# Altium schematic symbol library SparkFun-IC-Power.SCHLIB: 65 symbols
Pins are listed as number, name and electrical type; pins without a type are passive.

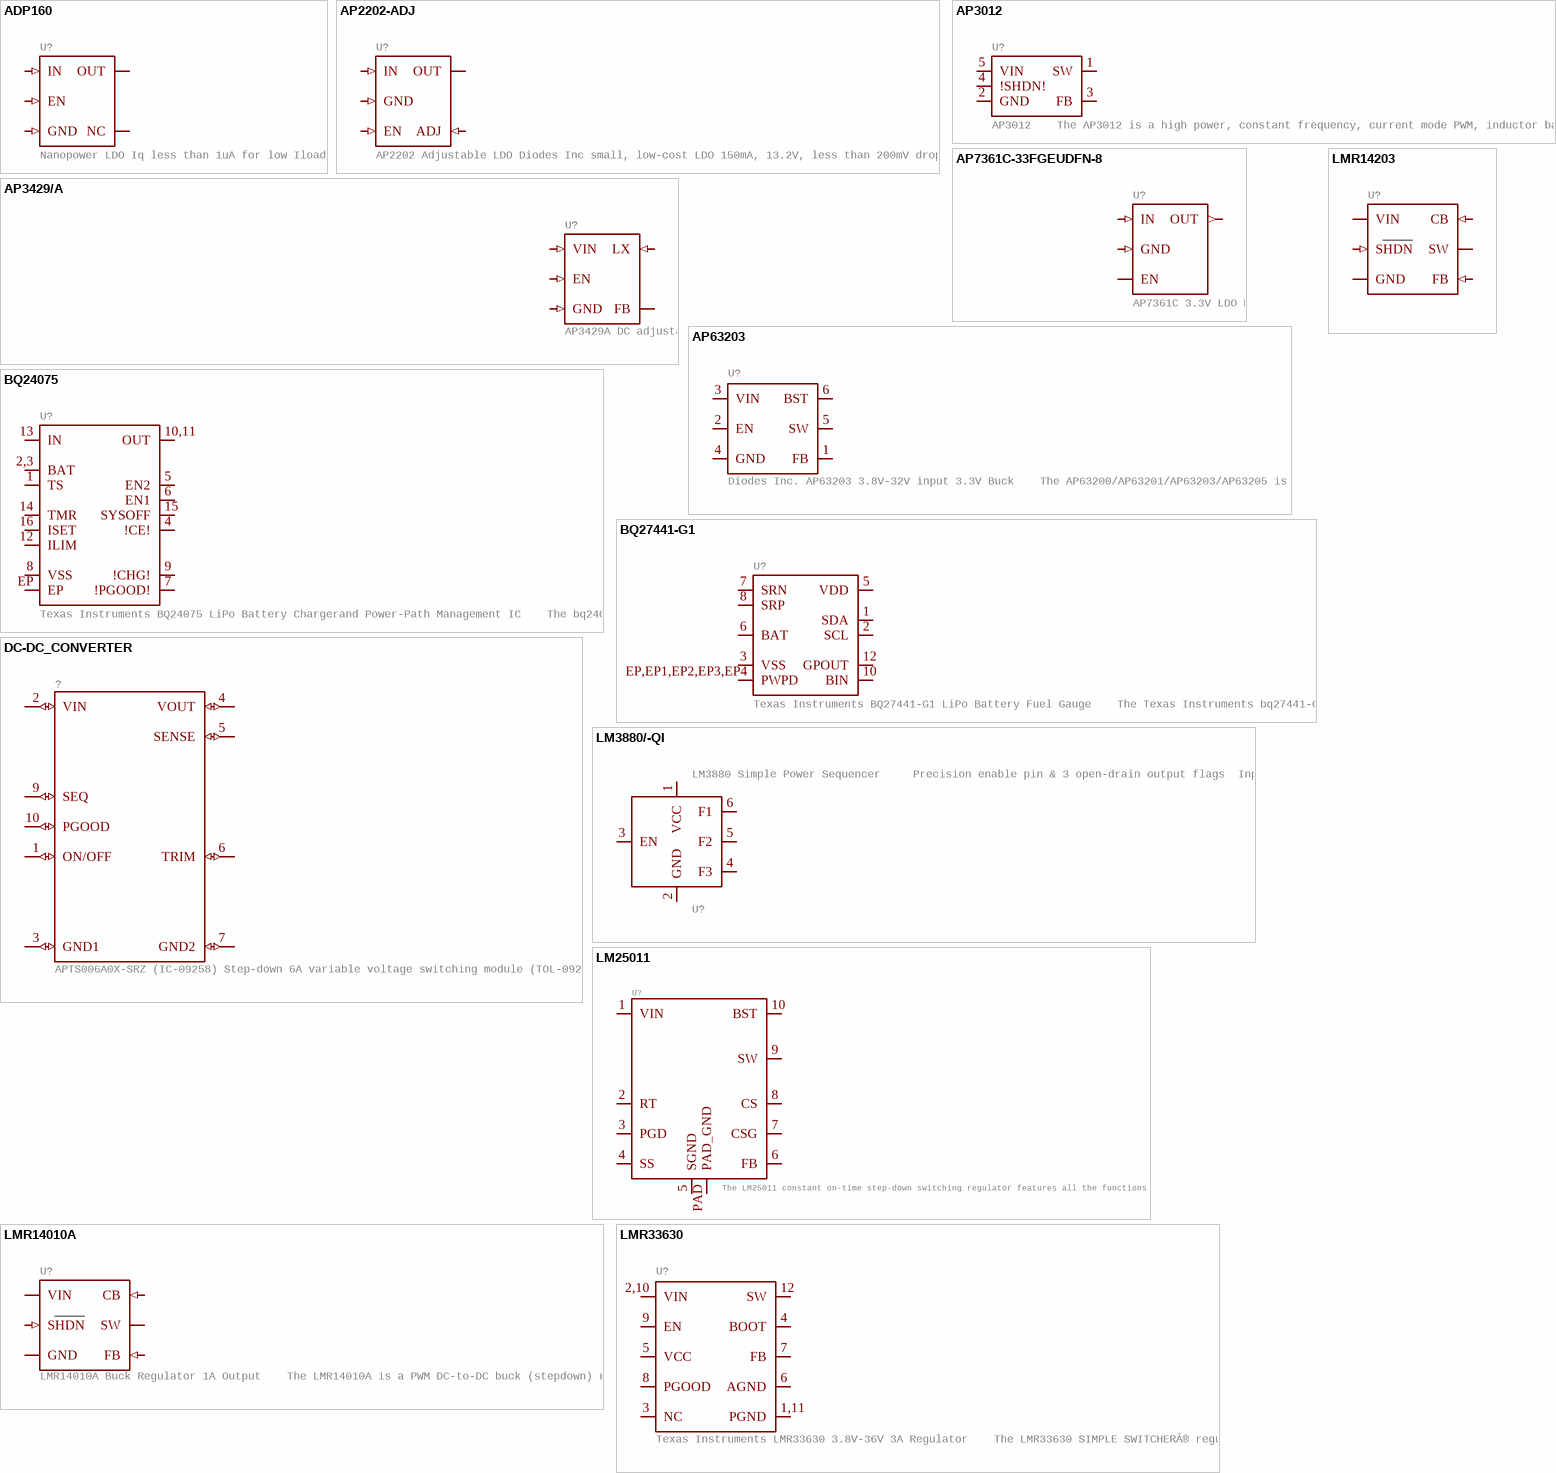
[diagram p0: symbols ADP160 to LMR33630]

## ADP160
designator U?, comment Nanopower LDO Iq less than 1uA for low Iload
GateName_1: U1; SymbolName_1: V-REG-LDO_NO-BP; DeviceSetName: ADP160; PROD_ID: VREG-11306; LibraryName: SparkFun-IC-Power; Package: SOT23-5
footprint SOT23-5
pins: 1 IN (in), 2 GND (in), 3 EN (in), 4 NC, 5 OUT

## AP2202-ADJ
designator U?, comment AP2202 Adjustable LDO Diodes Inc small, low-cost LDO 150mA, 13.2V, less than 200mV dropout
GateName_1: G$1; SymbolName_1: V-REG-LDO-ADJ; DeviceSetName: AP2202-ADJ; PROD_ID: VREG-12189; LibraryName: SparkFun-IC-Power; Package: SOT23-5
footprint SOT23-5
pins: 1 IN (in), 2 GND (in), 3 EN (in), 4 ADJ (in), 5 OUT

## AP3012
designator U?, comment AP3012    The AP3012 is a high power, constant frequency, current mode PWM, inductor based, step-up (boost) converter. The converter operates at high frequency (1.5MHz) so that a small, low profile inductor can be used.   Datasheet
GateName_1: G$1; PROD_ID: VREG-13911; SymbolName_1: AP3012; LibraryName: SparkFun-IC-Power; DeviceSetName: AP3012; Package: SOT23-5
footprint SOT23-5
pins: 1 SW (io), 2 GND (io), 3 FB (io), 4 !SHDN! (io), 5 VIN (io)

## AP3429/A
designator U?, comment AP3429A DC adjustable buck up to 2A output. Auto cut-off at 2.7V makes this a good option for LiPo and other battery powered circuits.
GateName_1: U1; SymbolName_1: V-REG-LDO-ADJ-1; DeviceSetName: AP3429/A; PROD_ID: IC-14465; LibraryName: SparkFun-IC-Power; Package: SOT23-5
footprint SOT23-5
pins: 1 EN (in), 2 GND (in), 3 LX (in), 4 VIN (in), 5 FB

## AP7361C-33FGEUDFN-8
designator U?, comment AP7361C 3.3V LDO Regulator
GateName_1: G$1; DeviceName: UDFN-8; DeviceSetName: AP7361C-33FGE; PROD_ID: VREG-14094; SymbolName_1: AP7361C; LibraryName: SparkFun-IC-Power; Package: UDFN-8
footprint UDFN-8
pins: 1 OUT (out), 4,EP GND (in), 5 EN (io), 8 IN (in)

## AP63203
designator U?, comment Diodes Inc. AP63203 3.8V-32V input 3.3V Buck    The AP63200/AP63201/AP63203/AP63205 is a 2A, synchronous buck converter with a wide input voltage range of 3.8V to 32V and fully integrates a 125mâ„¦ high-side power MOSFET and a 68mâ„¦ lowside power MOSFET to provide high-efficiency step-down DC/DC conversion
GateName_1: G$1; PROD_ID: VREG-15244; SymbolName_1: AP63203; LibraryName: SparkFun-IC-Power; DeviceSetName: AP63203; Package: SOT23-6
footprint SOT23-6
pins: 1 FB (io), 2 EN (io), 3 VIN (io), 4 GND (io), 5 SW (io), 6 BST (io)

## BQ24075
designator U?, comment Texas Instruments BQ24075 LiPo Battery Chargerand Power-Path Management IC    The bq2407x series of devices are integrated Li-Ion linear chargers and system power path management devices targeted at space-limited portable applications. The devices operate from either a USB port or an AC adapter and support charge currents up to 1.5 A. The input voltage range with input overvoltage protection supports unregulated adapters. The USB input current limit accuracy and start up sequence allow the bq2407x to meet USB-IF inrush current specifications. Additionally, the input dynamic power management (VIN-DPM) prevents the charger from crashing incorrectly configured USB sources.   Datasheet SparkFun Products  SparkFun Battery Babysitter (PRT-13777)
GateName_1: G$1; PROD_ID: IC-13219; SymbolName_1: BQ24075; LibraryName: SparkFun-IC-Power; DeviceSetName: BQ24075; Package: PVQFN-N16
footprint PVQFN-N16
pins: 1 TS (io), 2,3 BAT (io), 4 !CE! (io), 5 EN2 (io), 6 EN1 (io), 7 !PGOOD! (io), 8 VSS (io), 9 !CHG! (io), 10,11 OUT (io), 12 ILIM (io), 13 IN (io), 14 TMR (io), 15 SYSOFF (io), 16 ISET (io), EP (io)

## BQ27441-G1
designator U?, comment Texas Instruments BQ27441-G1 LiPo Battery Fuel Gauge    The Texas Instruments bq27441-G1 fuel gauge is a microcontroller peripheral that provides system-side fuel gauging for single-cell Li-Ion batteries. The device requires minimal user configuration and system microcontroller firmware development.   The bq27441-G1 battery fuel gauge uses the patented Impedance Trackâ„¢ algorithm for fuel gauging, and provides information such as remaining battery capacity (mAh), state-of-charge (%), and battery voltage (mV).   Datasheet SparkFun Products  SparkFun Battery Babysitter (PRT-13777)
GateName_1: G$1; PROD_ID: IC-13220; SymbolName_1: BQ27441-G1; LibraryName: SparkFun-IC-Power; DeviceSetName: BQ27441-G1; Package: PDSO-N12
footprint PDSO-N12
pins: 1 SDA (io), 2 SCL (io), 3 VSS (io), 5 VDD (io), 6 BAT (io), 7 SRN (io), 8 SRP (io), 10 BIN (io), 12 GPOUT (io), EP,EP1,EP2,EP3,EP4 PWPD (io)

## DC-DC_CONVERTER
designator ?, comment APTS006A0X-SRZ (IC-09258) Step-down 6A variable voltage switching module (TOL-09275)
GateName_1: G$1; SymbolName_1: DC-DC_CONVERTER; LibraryName: SparkFun-IC-Power; DeviceSetName: DC-DC_CONVERTER; Package: DC-DC_CONVERTER
footprint DC-DC_CONVERTER
pins: 1 ON/OFF (io), 2 VIN (io), 3 GND1 (io), 4 VOUT (io), 5 SENSE (io), 6 TRIM (io), 7 GND2 (io), 9 SEQ (io), 10 PGOOD (io)

## LM3880/-QI
designator U?, comment LM3880 Simple Power Sequencer     Precision enable pin & 3 open-drain output flags  Input Voltage Range of 2.7 V to 5.5 V  Power-Up and Power-Down Control  The timing sequence of the LM3880 is controlled entirely by the enable (EN) pin. Upon power up, all the flags are held low until this precision enable is pulled high    LM3880MF-1XY (Timing Designator)  AF: 16ms  AE: 2ms  AA: 10ms  AB: 30ms  AC: 60ms  AD: 120ms        SparkFun Products  SparkFun 6 Degrees of Freedom Breakout - LSM303C (BOB-13303)
GateName_1: G$1; SymbolName_1: LM3880/-QI; PROD_ID: IC-12558; LibraryName: SparkFun-IC-Power; DeviceSetName: LM3880/-QI; Package: SOT23-6
footprint SOT23-6
pins: 1 VCC (io), 2 GND (io), 3 EN (io), 4 F3 (io), 5 F2 (io), 6 F1 (io)

## LM25011
designator U?, comment The LM25011 constant on-time step-down switching regulator features all the functions needed to implement a low-cost, efficient, buck bias regulator capable of supplying up to 2 A of load current. This high-voltage regulator contains an N-Channel Buck switch, a startup regulator, current limit detection, and internal ripple control.
GateName_1: G$1; PROD_ID: IC-12528; SymbolName_1: LM25011; LibraryName: SparkFun-IC-Power; DeviceSetName: LM25011; Package: HVSS0P-10
footprint HVSS0P-10
pins: 1 VIN (io), 2 RT (io), 3 PGD (io), 4 SS (io), 5 SGND (io), 6 FB (io), 7 CSG (io), 8 CS (io), 9 SW (io), 10 BST (io), PAD PAD_GND (io)

## LMR14010A
designator U?, comment LMR14010A Buck Regulator 1A Output    The LMR14010A is a PWM DC-to-DC buck (stepdown) regulator. With a wide input range from 4 V to 40 V, it is suitable for a wide range of applications from industrial to automotive. An ultra-low 1-ÂµA shutdown current prolongs battery life. Operating frequency is fixed at 0.7 MHz, allowing the use of small external components while minimizing output ripple voltage. Soft-start and compensation circuits are implemented internally, limiting the number of external components.    The LMR14010A is optimized for up to 1-A load current. It has a 0.765-V nominal feedback voltage
GateName_1: G$1; SymbolName_1: LMR14203; PROD_ID: IC-15089; LibraryName: SparkFun-IC-Power; DeviceSetName: LMR14010A; Package: SOT23-6
footprint SOT23-6
pins: 1 CB (in), 2 GND (power), 3 FB (in), 4 SHDN (in), 5 VIN (power), 6 SW (power)

## LMR14203
designator U?
GateName_1: U1; SymbolName_1: LMR14203; PROD_ID: IC-13918; LibraryName: SparkFun-IC-Power; DeviceSetName: LMR14203; Package: SOT23-6
footprint SOT23-6
pins: 1 CB (in), 2 GND (power), 3 FB (in), 4 SHDN (in), 5 VIN (power), 6 SW (power)

## LMR33630
designator U?, comment Texas Instruments LMR33630 3.8V-36V 3A Regulator    The LMR33630 SIMPLE SWITCHERÂ® regulator is an easy-to-use, synchronous, step-down DC/DC converter that delivers best-in-class efficiency for rugged industrial applications. The LMR33630 drives up to 3 A of load current from an input of up to 36 V.
GateName_1: G$1; PROD_ID: VREG-15445; SymbolName_1: LMR33630; LibraryName: SparkFun-IC-Power; DeviceSetName: LMR33630; Package: VQFN-HR-12
footprint VQFN-HR-12
pins: 1,11 PGND (io), 2,10 VIN (io), 3 NC (io), 4 BOOT (io), 5 VCC (io), 6 AGND (io), 7 FB (io), 8 PGOOD (io), 9 EN (io), 12 SW (io)

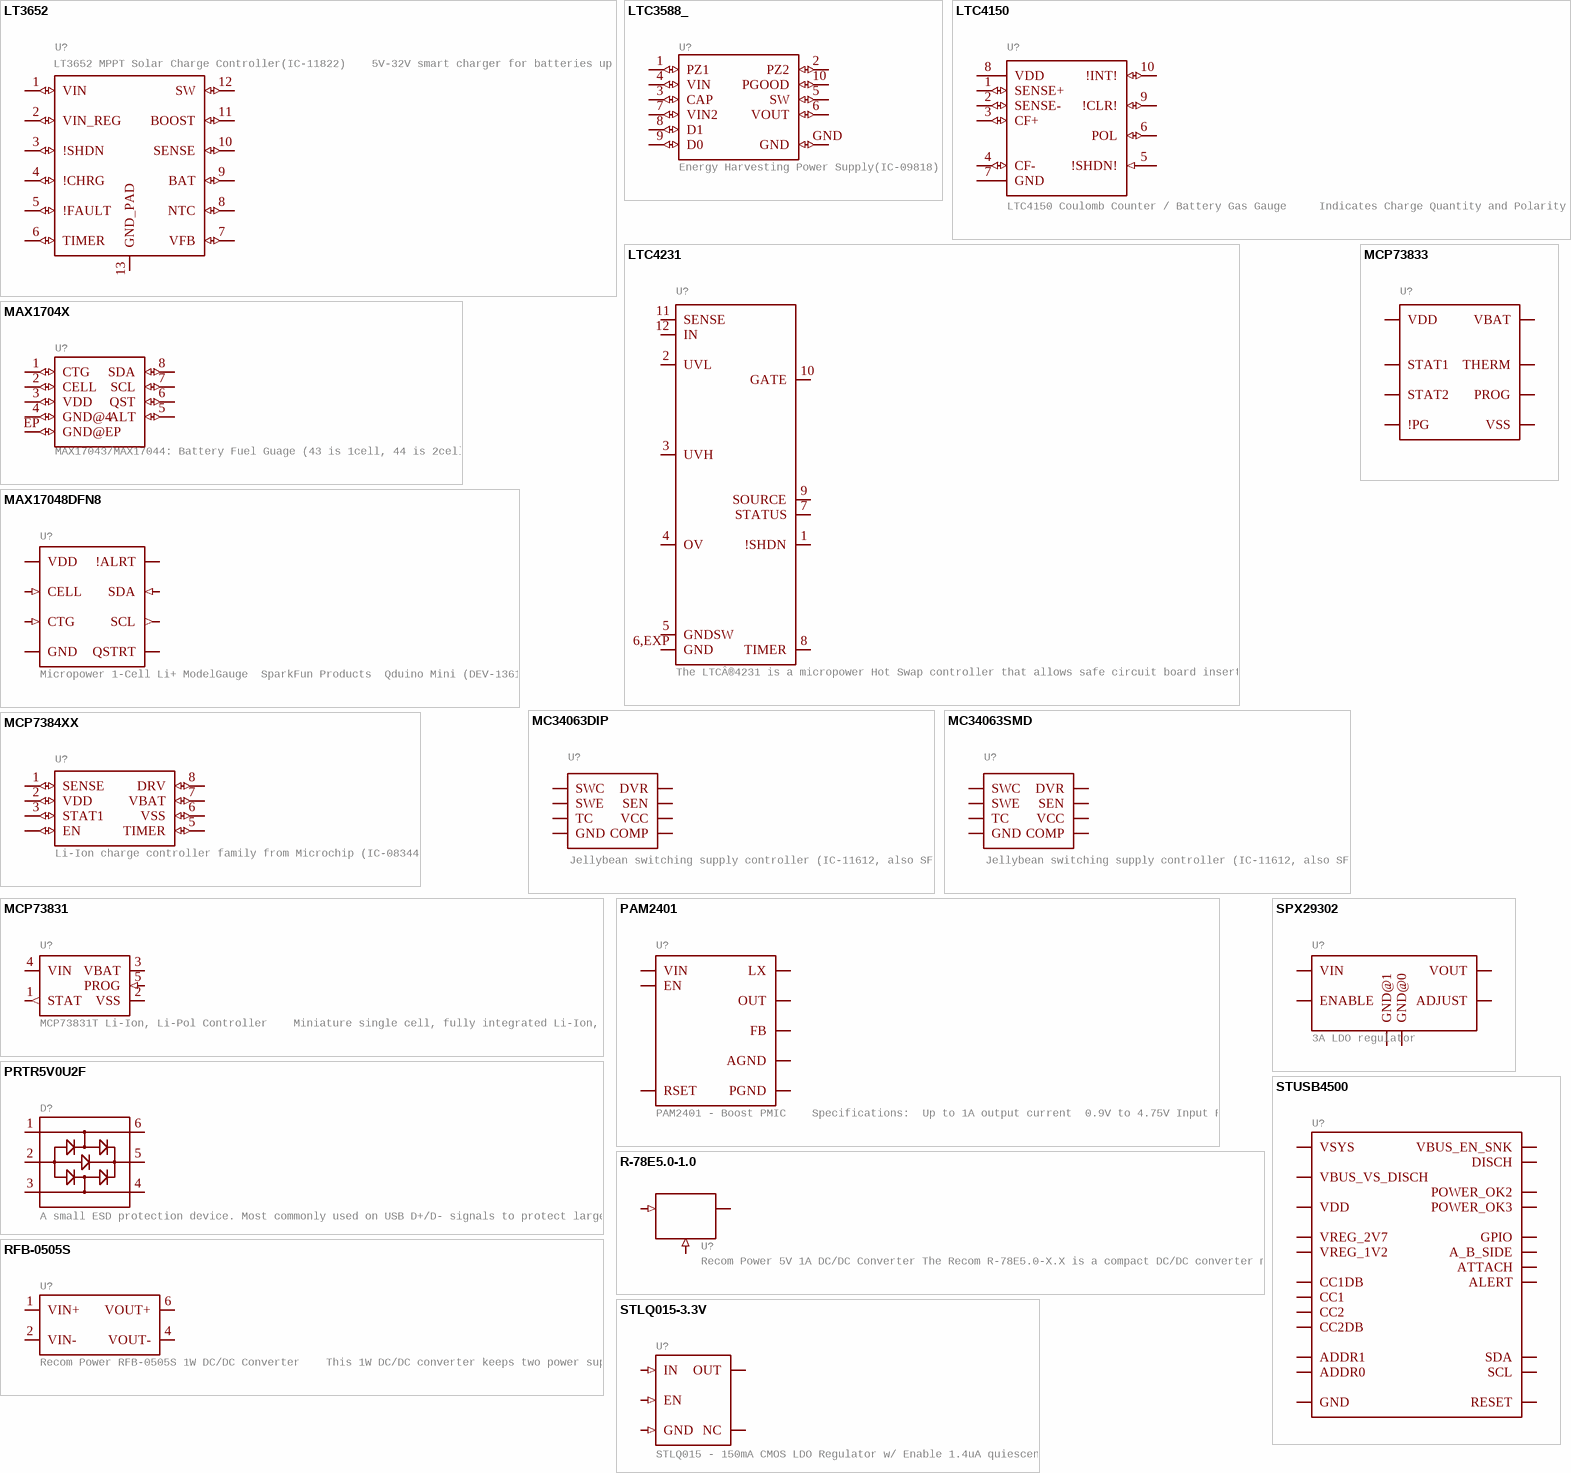
[diagram p1: symbols LT3652 to STUSB4500]

## LT3652
designator U?, comment LT3652 MPPT Solar Charge Controller(IC-11822)    5V-32V smart charger for batteries up to 14.4V
GateName_1: G$1; SymbolName_1: LT3652; LibraryName: SparkFun-IC-Power; DeviceSetName: LT3652; Package: MSOP-12_GND
footprint MSOP-12_GND
pins: 1 VIN (io), 2 VIN_REG (io), 3 !SHDN (io), 4 !CHRG (io), 5 !FAULT (io), 6 TIMER (io), 7 VFB (io), 8 NTC (io), 9 BAT (io), 10 SENSE (io), 11 BOOST (io), 12 SW (io), 13 GND_PAD (io)

## LTC3588_
designator U?, comment Energy Harvesting Power Supply(IC-09818)
GateName_1: G$1; SymbolName_1: LTC3588; DeviceName: _; LibraryName: SparkFun-IC-Power; DeviceSetName: LTC3588; Package: MSOP-10-GNDPAD
footprint MSOP-10-GNDPAD
pins: 1 PZ1 (io), 2 PZ2 (io), 3 CAP (io), 4 VIN (io), 5 SW (io), 6 VOUT (io), 7 VIN2 (io), 8 D1 (io), 9 D0 (io), 10 PGOOD (io), GND (io)

## LTC4150
designator U?, comment LTC4150 Coulomb Counter / Battery Gas Gauge     Indicates Charge Quantity and Polarity  Â±50mV Sense Voltage Range  Precision Timer Capacitor or Crystal Not Required  2.7V to 8.5V Operation  High Side Sense  32.55Hz/V Charge Count Frequency  1.5Î¼A Shutdown Current  10-Pin MSOP Package          Datasheet Manufacturer's page: http://www.linear.com/product/LTC4150 SparkFun Products  SparkFun Coulomb Counter Breakout - LTC4150 (BOB-12052)
GateName_1: G$1; PROD_ID: IC-11785; SymbolName_1: LTC4150; LibraryName: SparkFun-IC-Power; DeviceSetName: LTC4150; Package: MSOP10
footprint MSOP10
pins: 1 SENSE+ (io), 2 SENSE- (io), 3 CF+ (io), 4 CF- (io), 5 !SHDN! (in), 6 POL (io), 7 GND (power), 8 VDD (power), 9 !CLR! (io), 10 !INT! (io)

## LTC4231
designator U?, comment The LTCÂ®4231 is a micropower Hot Swap controller that allows safe circuit board insertion and removal from a live power supply. An internal high side switch driver controls the gate of an external N-channel MOSFET. Back-to-back MOSFETs can be used for reverse supply protection down to â€“40V.
GateName_1: G$1; SymbolName_1: LTC4231; PROD_ID: IC-15811; LibraryName: SparkFun-IC-Power; DeviceSetName: LTC4231; Package: QFN-12
footprint QFN-12
pins: 1 !SHDN (io), 2 UVL (io), 3 UVH (io), 4 OV (io), 5 GNDSW (io), 6,EXP GND (io), 7 STATUS (io), 8 TIMER (io), 9 SOURCE (io), 10 GATE (io), 11 SENSE (io), 12 IN (io)

## MAX1704X
designator U?, comment MAX17043/MAX17044: Battery Fuel Guage (43 is 1cell, 44 is 2cell)
GateName_1: G$1; SymbolName_1: MAX1704X; PROD-ID: IC-10399; LibraryName: SparkFun-IC-Power; DeviceSetName: MAX1704X; Package: TDFN-8
footprint TDFN-8
pins: 1 CTG (io), 2 CELL (io), 3 VDD (io), 4 GND@4 (io), 5 ALT (io), 6 QST (io), 7 SCL (io), 8 SDA (io), EP GND@EP (io)

## MAX17048DFN8
designator U?, comment Micropower 1-Cell Li+ ModelGauge  SparkFun Products  Qduino Mini (DEV-13614)
GateName_1: U1; SymbolName_1: MAX17048; DeviceName: DFN8; PROD_ID: IC-12551; LibraryName: SparkFun-IC-Power; DeviceSetName: MAX17048; Package: DFN-8
footprint DFN-8
pins: 1 CTG (in), 2 CELL (in), 3 VDD (io), 4,9 GND (io), 5 !ALRT (io), 6 QSTRT (io), 7 SCL (out), 8 SDA (in)

## MC34063DIP
designator U?, comment Jellybean switching supply controller (IC-11612, also SF)
GateName_1: G$1; SymbolName_1: MC34063; DeviceName: DIP; LibraryName: SparkFun-IC-Power; DeviceSetName: MC34063; Package: DIP-08
footprint DIP-08
pins: 1 SWC (io), 2 SWE (io), 3 TC (io), 4 GND (io), 5 COMP (io), 6 VCC (io), 7 SEN (io), 8 DVR (io)

## MC34063SMD
designator U?, comment Jellybean switching supply controller (IC-11612, also SF)
GateName_1: G$1; SymbolName_1: MC34063; DeviceName: SMD; LibraryName: SparkFun-IC-Power; DeviceSetName: MC34063; Package: SO08
footprint SO08
pins: 1 SWC (io), 2 SWE (io), 3 TC (io), 4 GND (io), 5 COMP (io), 6 VCC (io), 7 SEN (io), 8 DVR (io)

## MCP7384XX
designator U?, comment Li-Ion charge controller family from Microchip (IC-08344)
GateName_1: G$1; SymbolName_1: MCP73842; DeviceSetName: MCP7384XX; LibraryName: SparkFun-IC-Power; Package: MSOP8
footprint MSOP8
pins: 1 SENSE (io), 2 VDD (io), 3 STAT1 (io), 4 EN (io), 5 TIMER (io), 6 VSS (io), 7 VBAT (io), 8 DRV (io)

## MCP73831
designator U?, comment MCP73831T Li-Ion, Li-Pol Controller    Miniature single cell, fully integrated Li-Ion, Li-polymer charge management controller  Datasheet    SparkFun Products: SparkFun ESP32 Thing  SparkFun 9DoF Razor IMU M0
GateName_1: G$1; PROD_ID: IC-09995; SymbolName_1: MCP73831; LibraryName: SparkFun-IC-Power; DeviceSetName: MCP73831; Package: SOT23-5
footprint SOT23-5
pins: 1 STAT (out), 2 VSS (power), 3 VBAT (power), 4 VIN (power), 5 PROG (in)

## MCP73833
designator U?
GateName_1: G$1; SymbolName_1: MCP73833; PROD_ID: IC-14369; LibraryName: SparkFun-IC-Power; DeviceSetName: MCP73833; Package: DFN-10
footprint DFN-10
pins: 1,2 VDD (io), 3 STAT1 (io), 4 STAT2 (io), 5,11 VSS (io), 6 PROG (io), 7 !PG (io), 8 THERM (io), 9,10 VBAT (io)

## PAM2401
designator U?, comment PAM2401 - Boost PMIC    Specifications:  Up to 1A output current  0.9V to 4.75V Input Range   2.5V to 5.0V Adjustable Output Voltage       Datasheet (Diodes inc.)
GateName_1: G$1; PROD_ID: IC-13769; SymbolName_1: PAM2401; LibraryName: SparkFun-IC-Power; DeviceSetName: PAM2401; Package: MSOP8
footprint MSOP8
pins: 1 LX (io), 2 EN (io), 3 VIN (io), 4 AGND (io), 5 FB (io), 6 RSET (io), 7 OUT (io), 8 PGND (io)

## PRTR5V0U2F
designator D?, comment A small ESD protection device. Most commonly used on USB D+/D- signals to protect large, expensive, or especially sensitive USB enabled devices.
GateName_1: D1; SymbolName_1: PRTR5V0U2; DeviceName: F; PROD_ID: DIO-14084; LibraryName: SparkFun-IC-Power; DeviceSetName: PRTR5V0U2; Package: SOT886
footprint SOT886
pins: 1 (io), 2 (power), 3 (io), 4 (io), 5 (power), 6 (io)

## R-78E5.0-1.0
designator U?, comment Recom Power 5V 1A DC/DC Converter The Recom R-78E5.0-X.X is a compact DC/DC converter module that is a pin for pin drop-in replacement for the LM7805 linear voltage regulator.   Specifications:  Input Range: 7-28V  Output Voltage: 5V  Output Current: 1A  Max Efficiency: 91%     Datasheet
GateName_1: G$1; SymbolName_1: 78XX; DeviceSetName: R-78E5.0-1.0; PROD_ID: COM-13655; LibraryName: SparkFun-IC-Power; Package: DC-DC_CONVERTER_78XX
footprint DC-DC_CONVERTER_78XX
pins: GND (in), VIN IN (in), VOUT OUT

## RFB-0505S
designator U?, comment Recom Power RFB-0505S 1W DC/DC Converter    This 1W DC/DC converter keeps two power supplies magnetically isolated. Supplies up to 200 mA @ 5V.
GateName_1: G$1; PROD_ID: IC-14143; SymbolName_1: RFB-0505S; LibraryName: SparkFun-IC-Power; DeviceSetName: RFB-0505S; Package: RFB-0505S
footprint RFB-0505S
pins: 1 VIN+ (io), 2 VIN- (io), 4 VOUT- (io), 6 VOUT+ (io)

## SPX29302
designator U?, comment 3A LDO regulator
GateName_1: G$1; SymbolName_1: SPX29300; DeviceSetName: SPX29302; PROD_ID: VREG-08337; LibraryName: SparkFun-IC-Power; Package: Q5-DD_SPX29300
footprint Q5-DD_SPX29300
pins: 1 ENABLE (io), 2 VIN (io), 3 GND@1 (io), 4 VOUT (io), 5 ADJUST (io), 6 GND@0 (io)

## STLQ015-3.3V
designator U?, comment STLQ015 - 150mA CMOS LDO Regulator w/ Enable 1.4uA quiescent
GateName_1: U1; SymbolName_1: V-REG-LDO_NO-BP; DeviceName: -3.3V; PROD_ID: IC-15779; LibraryName: SparkFun-IC-Power; DeviceSetName: STLQ015; Package: SOT23-5
footprint SOT23-5
pins: 1 IN (in), 2 GND (in), 3 EN (in), 4 NC, 5 OUT

## STUSB4500
designator U?
GateName_1: G$1; SymbolName_1: STUSB4500; PROD_ID: IC-14684; LibraryName: SparkFun-IC-Power; DeviceSetName: STUSB4500; Package: QFN-24
footprint QFN-24
pins: P$1 CC1DB (io), P$2 CC1 (io), P$4 CC2 (io), P$5 CC2DB (io), P$6 RESET (io), P$7 SCL (io), P$8 SDA (io), P$9 DISCH (io), P$10,25 GND (io), P$11 ATTACH (io), P$12 ADDR0 (io), P$13 ADDR1 (io), P$14 POWER_OK3 (io), P$15 GPIO (io), P$16 VBUS_EN_SNK (io), P$17 A_B_SIDE (io), P$18 VBUS_VS_DISCH (io), P$19 ALERT (io), P$20 POWER_OK2 (io), P$21 VREG_1V2 (io), P$22 VSYS (io), P$23 VREG_2V7 (io), P$24 VDD (io)

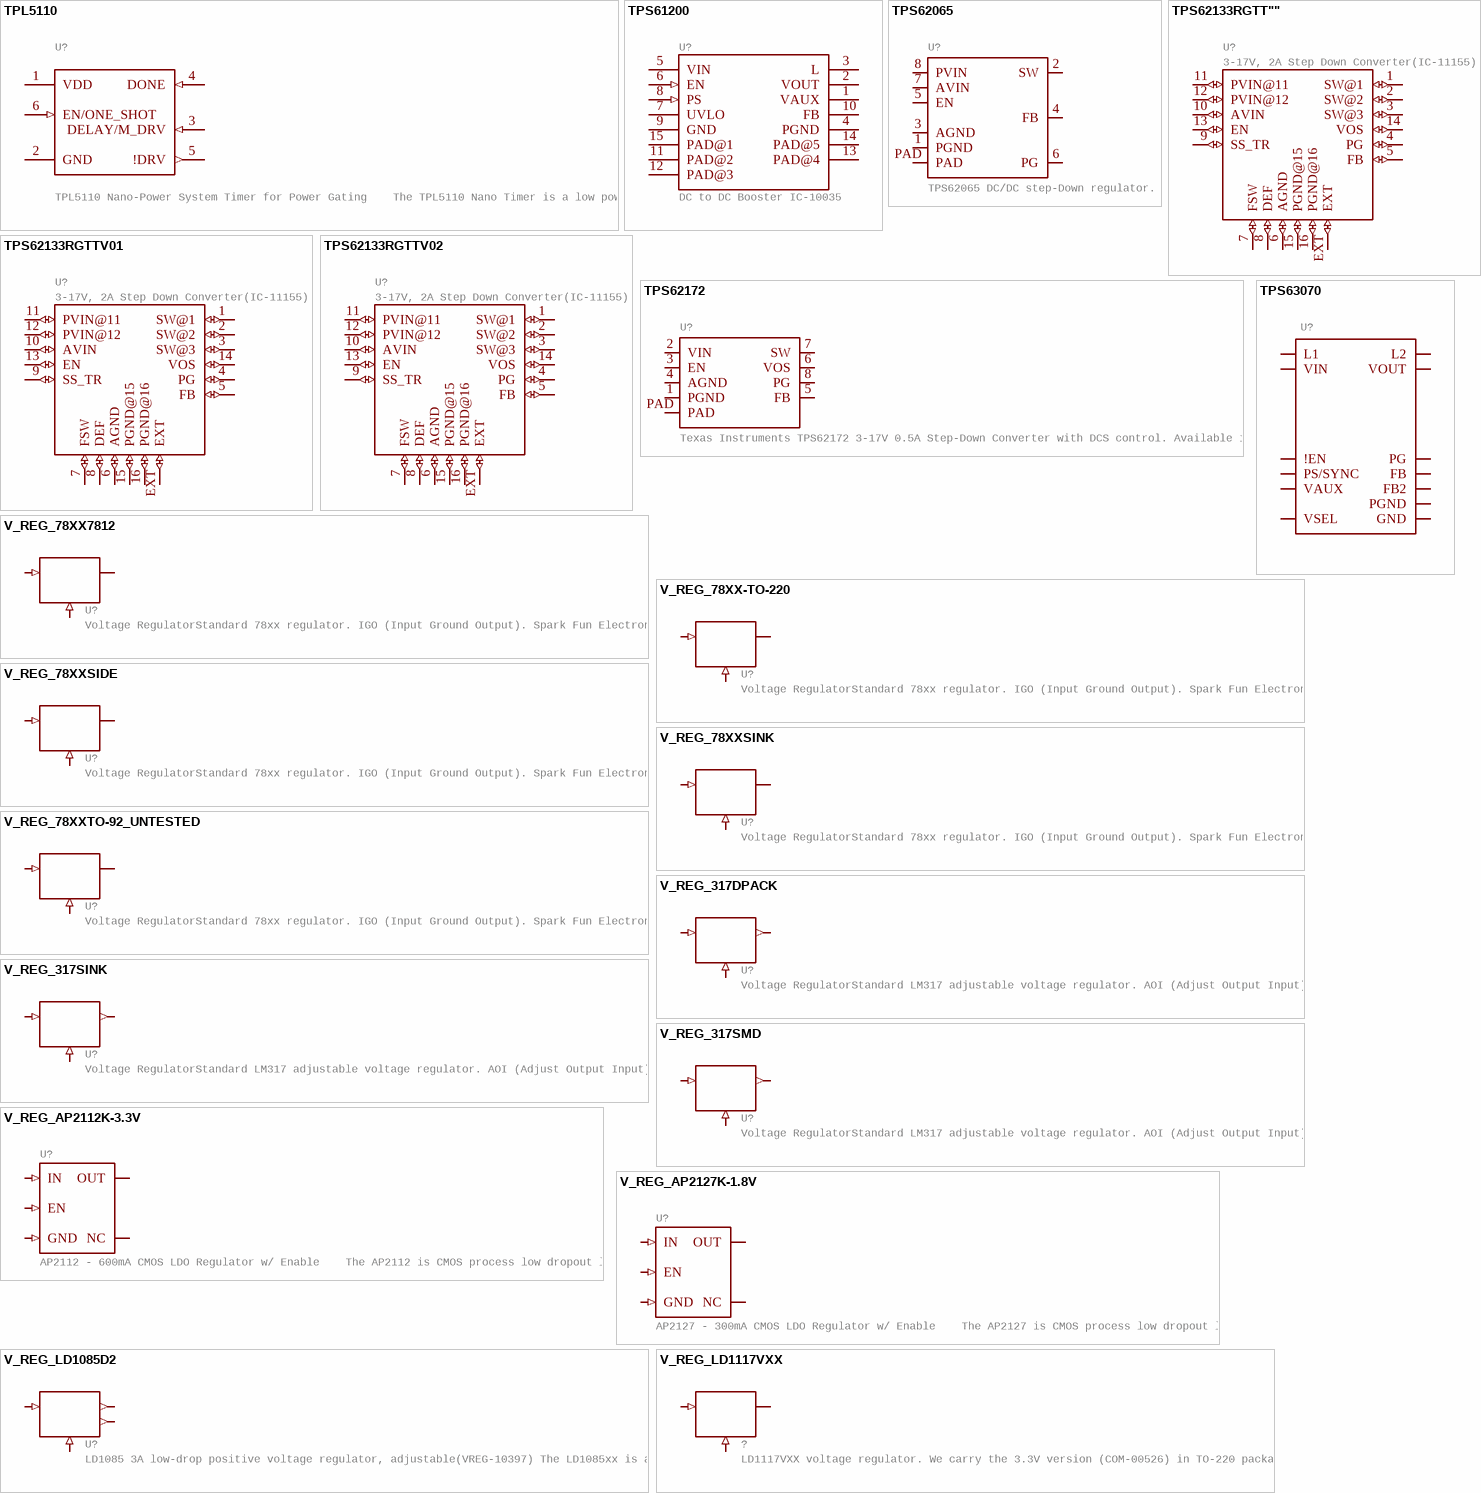
[diagram p2: symbols TPL5110 to V_REG_LD1117VXX]

## TPL5110
designator U?, comment TPL5110 Nano-Power System Timer for Power Gating    The TPL5110 Nano Timer is a low power timer with an integrated MOSFET driver designed for power gating in duty cycled or battery-powered applications. Consuming only 35 nA, the TPL5110 can enable the power supply line and drastically reduce the overall system stand by current during the sleep time.
GateName_1: G$1; PROD_ID: IC-14387; SymbolName_1: TPL5110; LibraryName: SparkFun-IC-Power; DeviceSetName: TPL5110; Package: SOT23-6
footprint SOT23-6
pins: 1 VDD (power), 2 GND (power), 3 DELAY/M_DRV (in), 4 DONE (in), 5 !DRV (out), 6 EN/ONE_SHOT (in)

## TPS61200
designator U?, comment DC to DC Booster IC-10035
GateName_1: G$1; SymbolName_1: TPS61200; LibraryName: SparkFun-IC-Power; DeviceSetName: TPS61200; Package: QFN-10_PAD; PROD_ID: IC-10035
footprint QFN-10_PAD
pins: 1 VAUX, 2 VOUT, 3 L, 4 PGND (power), 5 VIN (power), 6 EN (in), 7 UVLO, 8 PS (in), 9 GND (power), 10 FB, 11 PAD@2 (power), 12 PAD@3 (power), 13 PAD@4 (power), 14 PAD@5 (power), 15 PAD@1 (power)

## TPS62065
designator U?, comment TPS62065 DC/DC step-Down regulator.
GateName_1: G$1; SymbolName_1: TPS6206X; PROD_ID: IC-12273; LibraryName: SparkFun-IC-Power; DeviceSetName: TPS62065; Package: WSON-8-PAD
footprint WSON-8-PAD
pins: 1 PGND (io), 2 SW (io), 3 AGND (io), 4 FB (io), 5 EN (io), 6 PG (io), 7 AVIN (io), 8 PVIN (io), PAD (io)

## TPS62133RGTT""
designator U?, comment 3-17V, 2A Step Down Converter(IC-11155)
GateName_1: G$1; SymbolName_1: TPS62143; DeviceName: ""; DeviceSetName: TPS62133RGTT; LibraryName: SparkFun-IC-Power; Package: QFN16-3X3MM_1:1_V03; PROD_ID: IC-11155
footprint QFN16-3X3MM_1:1_V03
pins: 1 SW@1 (io), 2 SW@2 (io), 3 SW@3 (io), 4 PG (io), 5 FB (io), 6 AGND (io), 7 FSW (io), 8 DEF (io), 9 SS_TR (io), 10 AVIN (io), 11 PVIN@11 (io), 12 PVIN@12 (io), 13 EN (io), 14 VOS (io), 15 PGND@15 (io), 16 PGND@16 (io), EXT (io)

## TPS62133RGTTV01
designator U?, comment 3-17V, 2A Step Down Converter(IC-11155)
GateName_1: G$1; SymbolName_1: TPS62143; DeviceName: V01; DeviceSetName: TPS62133RGTT; LibraryName: SparkFun-IC-Power; Package: QFN16-3X3MM
footprint QFN16-3X3MM
pins: 1 SW@1 (io), 2 SW@2 (io), 3 SW@3 (io), 4 PG (io), 5 FB (io), 6 AGND (io), 7 FSW (io), 8 DEF (io), 9 SS_TR (io), 10 AVIN (io), 11 PVIN@11 (io), 12 PVIN@12 (io), 13 EN (io), 14 VOS (io), 15 PGND@15 (io), 16 PGND@16 (io), EXT (io)

## TPS62133RGTTV02
designator U?, comment 3-17V, 2A Step Down Converter(IC-11155)
GateName_1: G$1; SymbolName_1: TPS62143; DeviceName: V02; DeviceSetName: TPS62133RGTT; LibraryName: SparkFun-IC-Power; Package: QFN16-3X3MM_1:1_V02
footprint QFN16-3X3MM_1:1_V02
pins: 1 SW@1 (io), 2 SW@2 (io), 3 SW@3 (io), 4 PG (io), 5 FB (io), 6 AGND (io), 7 FSW (io), 8 DEF (io), 9 SS_TR (io), 10 AVIN (io), 11 PVIN@11 (io), 12 PVIN@12 (io), 13 EN (io), 14 VOS (io), 15 PGND@15 (io), 16 PGND@16 (io), EXT (io)

## TPS62172
designator U?, comment Texas Instruments TPS62172 3-17V 0.5A Step-Down Converter with DCS control. Available in adjustable and fixed output voltage versions.  Is packaged in an 8-pin WSON package measuring 2 Ã— 2 mm (DSG).   See a 3.3V fixed output version of this chip in action on the Electric Imp Breakout Board.  Datasheet
GateName_1: G$1; PROD_ID: IC-11307; SymbolName_1: TPS62172; LibraryName: SparkFun-IC-Power; DeviceSetName: TPS62172; Package: WSON-8-PAD
footprint WSON-8-PAD
pins: 1 PGND (io), 2 VIN (io), 3 EN (io), 4 AGND (io), 5 FB (io), 6 VOS (io), 7 SW (io), 8 PG (io), PAD (io)

## TPS63070
designator U?
GateName_1: G$1; SymbolName_1: TPS63070; PROD_ID: IC-14258; LibraryName: SparkFun-IC-Power; DeviceSetName: TPS63070; Package: VQFN-15-HR(3X2.5)
footprint VQFN-15-HR(3X2.5)
pins: P$1 PS/SYNC (io), P$2 PG (io), P$3 VAUX (io), P$4 GND (io), P$5 FB (io), P$6 FB2 (io), P$7/8 VOUT (io), P$9 L2 (io), P$10 PGND (io), P$11 L1 (io), P$12/13 VIN (io), P$14 !EN (io), P$15 VSEL (io)

## V_REG_78XX7812
designator U?, comment Voltage RegulatorStandard 78xx regulator. IGO (Input Ground Output). Spark Fun Electronics SKU : COM-00107
GateName_1: G$1; DeviceName: 7812; DeviceSetName: V_REG_78XX; PROD_ID: VREG-12370; SymbolName_1: 78XX; LibraryName: SparkFun-IC-Power; Package: TO-252
footprint TO-252
pins: 1 IN (in), 2 OUT, 3 GND (in)

## V_REG_78XX-TO-220
designator U?, comment Voltage RegulatorStandard 78xx regulator. IGO (Input Ground Output). Spark Fun Electronics SKU : COM-00107
GateName_1: G$1; DeviceName: -TO-220; DeviceSetName: V_REG_78XX; PROD_ID: VREG-08450; SymbolName_1: 78XX; LibraryName: SparkFun-IC-Power; Package: TO-220-ALT; SF_ID: COM-00107
footprint TO-220-ALT
pins: GND (in), IN (in), OUT

## V_REG_78XXSIDE
designator U?, comment Voltage RegulatorStandard 78xx regulator. IGO (Input Ground Output). Spark Fun Electronics SKU : COM-00107
GateName_1: G$1; DeviceName: SIDE; DeviceSetName: V_REG_78XX; SymbolName_1: 78XX; LibraryName: SparkFun-IC-Power; Package: 78XXL
footprint 78XXL
pins: GND (in), IN (in), OUT

## V_REG_78XXSINK
designator U?, comment Voltage RegulatorStandard 78xx regulator. IGO (Input Ground Output). Spark Fun Electronics SKU : COM-00107
GateName_1: G$1; DeviceName: SINK; DeviceSetName: V_REG_78XX; SymbolName_1: 78XX; LibraryName: SparkFun-IC-Power; Package: TO220-IGO
footprint TO220-IGO
pins: GND (in), IN (in), OUT

## V_REG_78XXTO-92_UNTESTED
designator U?, comment Voltage RegulatorStandard 78xx regulator. IGO (Input Ground Output). Spark Fun Electronics SKU : COM-00107
GateName_1: G$1; DeviceName: TO-92_UNTESTED; DeviceSetName: V_REG_78XX; SymbolName_1: 78XX; LibraryName: SparkFun-IC-Power; Package: TO-92
footprint TO-92
pins: 1 OUT, 2 GND (in), 3 IN (in)

## V_REG_317DPACK
designator U?, comment Voltage RegulatorStandard LM317 adjustable voltage regulator. AOI (Adjust Output Input). Google 'LM317 Calculator' for easy to use app to get the two resistor values needed. 240/720 for 5V output. 240/390 for 3.3V output. Spark Fun Electronics SKU : COM-00527
GateName_1: G$1; SymbolName_1: 78ADJ-2; DeviceName: DPACK; DeviceSetName: V_REG_317; PROD_ID: IC-09888; LibraryName: SparkFun-IC-Power; Package: V-REG_DPACK
footprint V-REG_DPACK
pins: 1 ADJ (in), 3 IN (in), 4 OUT (out)

## V_REG_317SINK
designator U?, comment Voltage RegulatorStandard LM317 adjustable voltage regulator. AOI (Adjust Output Input). Google 'LM317 Calculator' for easy to use app to get the two resistor values needed. 240/720 for 5V output. 240/390 for 3.3V output. Spark Fun Electronics SKU : COM-00527
GateName_1: G$1; SymbolName_1: 78ADJ-2; DeviceName: SINK; DeviceSetName: V_REG_317; LibraryName: SparkFun-IC-Power; Package: TO220-ADJ
footprint TO220-ADJ
pins: ADJ (in), IN (in), OUT (out)

## V_REG_317SMD
designator U?, comment Voltage RegulatorStandard LM317 adjustable voltage regulator. AOI (Adjust Output Input). Google 'LM317 Calculator' for easy to use app to get the two resistor values needed. 240/720 for 5V output. 240/390 for 3.3V output. Spark Fun Electronics SKU : COM-00527
GateName_1: G$1; SymbolName_1: 78ADJ-2; DeviceName: SMD; DeviceSetName: V_REG_317; LibraryName: SparkFun-IC-Power; Package: SOT223
footprint SOT223
pins: 1 ADJ (in), 2 OUT (out), 3 IN (in)

## V_REG_AP2112K-3.3V
designator U?, comment AP2112 - 600mA CMOS LDO Regulator w/ Enable    The AP2112 is CMOS process low dropout linear regulator with enable function, the regulator delivers a guaranteed 600mA (min.) continuous load current.   Features  Output Voltage Accuracy: Â±1.5%   Output Current: 600mA (Min.)   Foldback Short Current Protection: 50mA   Enable Function to Turn ON/OFF VOUT  Low Dropout Voltage (3.3V): 250mV (Typ.) @IOUT=600mA   Excellent Load Regulation: 0.2%/A (Typ.)   Excellent Line Regulation: 0.02%/V (Typ.)   Low Quiescent Current: 55Î¼A (Typ.)  Low Standby Current: 0.01Î¼A (Typ.)  Low Output Noise: 50Î¼VRMS   PSRR: 100Hz -65dB, 1kHz -65dB    OTSD Protection   Stable  with  1.0Î¼F Flexible Cap: Ceramic, Tantalum and Aluminum Electrolytic   Operation Temperature Range: -40Â°C to 85Â°C   ESD: MM 400V, HBM 4000V
GateName_1: G$1; SymbolName_1: V-REG-LDO_NO-BP; DeviceName: K-3.3V; DeviceSetName: V_REG_AP2112; PROD_ID: VREG-12457; LibraryName: SparkFun-IC-Power; Package: SOT23-5
footprint SOT23-5
pins: 1 IN (in), 2 GND (in), 3 EN (in), 4 NC, 5 OUT

## V_REG_AP2127K-1.8V
designator U?, comment AP2127 - 300mA CMOS LDO Regulator w/ Enable    The AP2127 is CMOS process low dropout linear regulator with enable function, the regulator delivers a guaranteed 300mA (min.) continuous load current.   Features  Output Voltage Accuracy: Â±1.5%   Output Current: 300mA (Min.)   Foldback Short Current Protection: 50mA   Enable Function to Turn ON/OFF VOUT  Low Dropout Voltage (3.3V): 250mV (Typ.) @IOUT=600mA   Excellent Load Regulation: 0.2%/A (Typ.)   Excellent Line Regulation: 0.02%/V (Typ.)   Low Quiescent Current: 55Î¼A (Typ.)  Low Standby Current: 0.01Î¼A (Typ.)  Low Output Noise: 50Î¼VRMS   PSRR: 100Hz -65dB, 1kHz -65dB    OTSD Protection   Stable  with  1.0Î¼F Flexible Cap: Ceramic, Tantalum and Aluminum Electrolytic   Operation Temperature Range: -40Â°C to 85Â°C   ESD: MM 400V, HBM 4000V
GateName_1: G$1; SymbolName_1: V-REG-LDO_NO-BP; DeviceName: K-1.8V; DeviceSetName: V_REG_AP2127; PROD_ID: VREG-14239; LibraryName: SparkFun-IC-Power; Package: SOT23-5
footprint SOT23-5
pins: 1 IN (in), 2 GND (in), 3 EN (in), 4 NC, 5 OUT

## V_REG_LD1085D2
designator U?, comment LD1085 3A low-drop positive voltage regulator, adjustable(VREG-10397) The LD1085xx is a low drop voltage regulator able to provide up to 3 A of output current. Dropout is guaranteed at a maximum of 1.2 V at the maximum output current, decreasing at lower loads. The LD1085xx is pin to pin compatible with the older 3-terminal adjustable regulators, but has better performances in term of drop and output tolerance.  Available Packages D2PAK/A - 3-pin w/ tabs, SMD
GateName_1: G$1; SymbolName_1: 78ADJ; DeviceName: D2; DeviceSetName: V_REG_LD1085; LibraryName: SparkFun-IC-Power; Package: D2PACK/A
footprint D2PACK/A
pins: 1 ADJ (in), 2 OUT (out), 3 IN (in), TAB OUT@1 (out)

## V_REG_LD1117VXX
designator ?, comment LD1117VXX voltage regulator. We carry the 3.3V version (COM-00526) in TO-220 package.
GateName_1: G$1; SymbolName_1: 78XX; DeviceSetName: V_REG_LD1117VXX; LibraryName: SparkFun-IC-Power; Package: 78XXL
footprint 78XXL
pins: GND OUT, IN GND (in), OUT IN (in)

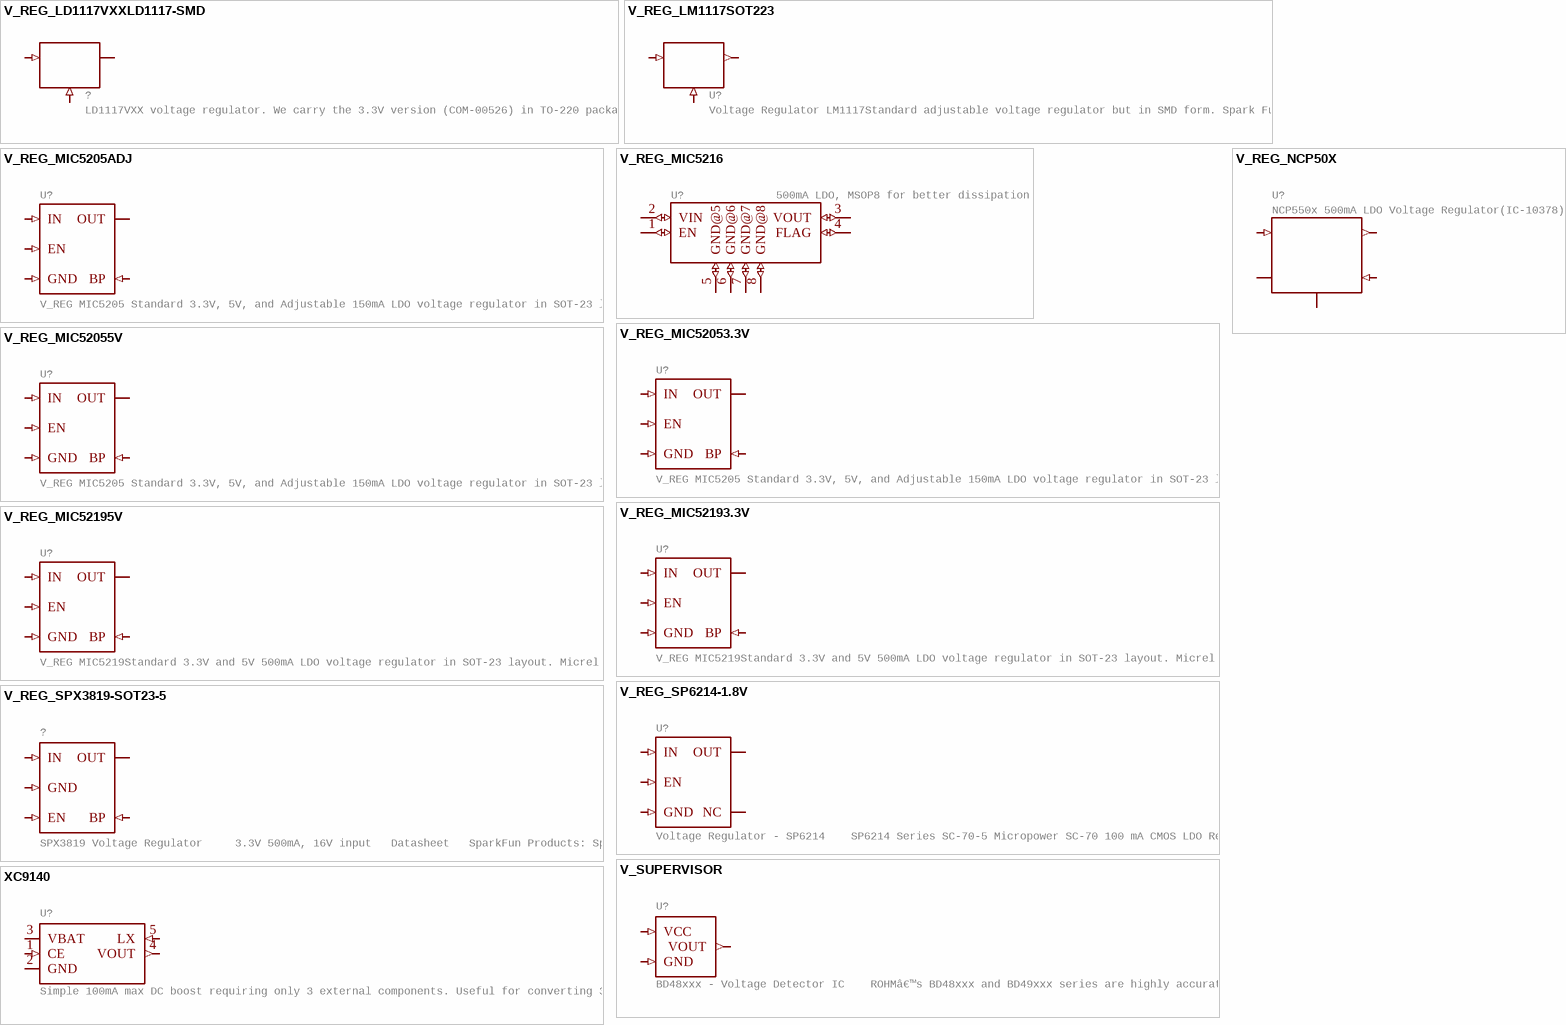
[diagram p3: symbols V_REG_LD1117VXXLD1117-SMD to XC9140]

## V_REG_LD1117VXXLD1117-SMD
designator ?, comment LD1117VXX voltage regulator. We carry the 3.3V version (COM-00526) in TO-220 package.
GateName_1: G$1; SymbolName_1: 78XX; DeviceName: LD1117-SMD; DeviceSetName: V_REG_LD1117VXX; PROD_ID: VREG-13917; LibraryName: SparkFun-IC-Power; Package: SOT223
footprint SOT223
pins: 1 GND (in), 2 OUT, 3 IN (in)

## V_REG_LM1117SOT223
designator U?, comment Voltage Regulator LM1117Standard adjustable voltage regulator but in SMD form. Spark Fun Electronics SKU : COM-00595
GateName_1: G$1; SymbolName_1: 78ADJ-2; DeviceName: SOT223; DeviceSetName: V_REG_LM1117; PROD_ID: VREG-08170; LibraryName: SparkFun-IC-Power; Package: SOT223
footprint SOT223
pins: 1 ADJ (in), 2,4 OUT (out), 3 IN (in)

## V_REG_MIC5205ADJ
designator U?, comment V_REG MIC5205 Standard 3.3V, 5V, and Adjustable 150mA LDO voltage regulator in SOT-23 layout. Micrel part MIC5205. BP (by-pass) pin is used to lower output noise with 470pF cap, may be left open. On the adjustable version BP is used to set output.
GateName_1: U1; SymbolName_1: V-REG-LDO; DeviceName: ADJ; DeviceSetName: V_REG_MIC5205; PROD_ID: VREG-12594; LibraryName: SparkFun-IC-Power; Package: SOT23-5
footprint SOT23-5
pins: 1 IN (in), 2 GND (in), 3 EN (in), 4 BP (in), 5 OUT

## V_REG_MIC5216
designator U?, comment 500mA LDO, MSOP8 for better dissipation
GateName_1: G$1; SymbolName_1: MIC5216-1; DeviceSetName: V_REG_MIC5216; PROD_ID: IC-09527; LibraryName: SparkFun-IC-Power; Package: MSOP8
footprint MSOP8
pins: 1 EN (io), 2 VIN (io), 3 VOUT (io), 4 FLAG (io), 5 GND@5 (io), 6 GND@6 (io), 7 GND@7 (io), 8 GND@8 (io)

## V_REG_MIC52053.3V
designator U?, comment V_REG MIC5205 Standard 3.3V, 5V, and Adjustable 150mA LDO voltage regulator in SOT-23 layout. Micrel part MIC5205. BP (by-pass) pin is used to lower output noise with 470pF cap, may be left open. On the adjustable version BP is used to set output.
GateName_1: U1; SymbolName_1: V-REG-LDO; DeviceSetName: V_REG_MIC5205; PROD_ID: VREG-00822; DeviceName: 3.3V; LibraryName: SparkFun-IC-Power; Package: SOT23-5
footprint SOT23-5
pins: 1 IN (in), 2 GND (in), 3 EN (in), 4 BP (in), 5 OUT

## V_REG_MIC52055V
designator U?, comment V_REG MIC5205 Standard 3.3V, 5V, and Adjustable 150mA LDO voltage regulator in SOT-23 layout. Micrel part MIC5205. BP (by-pass) pin is used to lower output noise with 470pF cap, may be left open. On the adjustable version BP is used to set output.
GateName_1: U1; SymbolName_1: V-REG-LDO; DeviceSetName: V_REG_MIC5205; PROD_ID: VREG-00823; DeviceName: 5V; LibraryName: SparkFun-IC-Power; Package: SOT23-5
footprint SOT23-5
pins: 1 IN (in), 2 GND (in), 3 EN (in), 4 BP (in), 5 OUT

## V_REG_MIC52193.3V
designator U?, comment V_REG MIC5219Standard 3.3V and 5V 500mA LDO voltage regulator in SOT-23 layout. Micrel part MIC5219. BP (by-pass) pin is used to lower output noise with 470pF cap, may be left open.
GateName_1: G$1; SymbolName_1: V-REG-LDO; DeviceSetName: V_REG_MIC5219; PROD_ID: VREG-09872; DeviceName: 3.3V; LibraryName: SparkFun-IC-Power; Package: SOT23-5
footprint SOT23-5
pins: 1 IN (in), 2 GND (in), 3 EN (in), 4 BP (in), 5 OUT

## V_REG_MIC52195V
designator U?, comment V_REG MIC5219Standard 3.3V and 5V 500mA LDO voltage regulator in SOT-23 layout. Micrel part MIC5219. BP (by-pass) pin is used to lower output noise with 470pF cap, may be left open.
GateName_1: G$1; SymbolName_1: V-REG-LDO; DeviceSetName: V_REG_MIC5219; PROD_ID: VREG-10107; DeviceName: 5V; LibraryName: SparkFun-IC-Power; Package: SOT23-5
footprint SOT23-5
pins: 1 IN (in), 2 GND (in), 3 EN (in), 4 BP (in), 5 OUT

## V_REG_NCP50X
designator U?, comment NCP550x 500mA LDO Voltage Regulator(IC-10378)
GateName_1: G$1; SymbolName_1: 78ADJ-3; DeviceSetName: V_REG_NCP50X; LibraryName: SparkFun-IC-Power; Package: DPAK-5
footprint DPAK-5
pins: ADJ (in), EN (io), GND (io), VIN IN (in), VOUT OUT (out)

## V_REG_SP6214-1.8V
designator U?, comment Voltage Regulator - SP6214    SP6214 Series SC-70-5 Micropower SC-70 100 mA CMOS LDO Regulator  Datasheet   SparkFun Products: MP3 Trigger  SparkFun Particle Sensor Breakout
GateName_1: G$1; SymbolName_1: V-REG-LDO_NO-BP; DeviceName: -1.8V; DeviceSetName: V_REG_SP6214; PROD_ID: VREG-08428; LibraryName: SparkFun-IC-Power; Package: SC70
footprint SC70
pins: 1 IN (in), 2 GND (in), 3 EN (in), 4 NC, 5 OUT

## V_REG_SPX3819-SOT23-5
designator ?, comment SPX3819 Voltage Regulator     3.3V 500mA, 16V input   Datasheet   SparkFun Products: SparkFun Serial Controlled Motor Driver
GateName_1: G$1; DeviceName: -SOT23-5; DeviceSetName: V_REG_SPX3819; PROD_ID: VREG-13321; SymbolName_1: SPX3819; LibraryName: SparkFun-IC-Power; Package: SOT23-5
footprint SOT23-5
pins: 1 IN (in), 2 GND (in), 3 EN (in), 4 BP (in), 5 OUT

## V_SUPERVISOR
designator U?, comment BD48xxx - Voltage Detector IC    ROHMâ€™s BD48xxx and BD49xxx series are highly accurate, low-current Voltage Detector IC series. The family includes BD48xxx devices with N-channel open drain output and BD49xxx devices with CMOS output. The devices are available for specific detection voltages ranging from 2.3V to 6.0V in increments of 0.1V.
GateName_1: G$1; DeviceSetName: V_SUPERVISOR; PROD_ID: IC-14809; SymbolName_1: BD48XXX; LibraryName: SparkFun-IC-Power; Package: SOT23-3
footprint SOT23-3
pins: 1 GND (in), 2 VOUT (out), 3 VCC (in)

## XC9140
designator U?, comment Simple 100mA max DC boost requiring only 3 external components. Useful for converting 3.3V or 4.2V up to 5V. 5.5V max output.
GateName_1: U1; SymbolName_1: XC9140; PROD_ID: VREG-14648; LibraryName: SparkFun-IC-Power; DeviceSetName: XC9140; Package: SOT23-5
footprint SOT23-5
pins: 1 CE (in), 2 GND (power), 3 VBAT (power), 4 VOUT (out), 5 LX (in)